# EAGLE library part PCM510X (library toslink)
2VRMS DirectPath™, 112/106/100dB Audio Stereo DAC with 32-bit, 384kHz PCM Interface
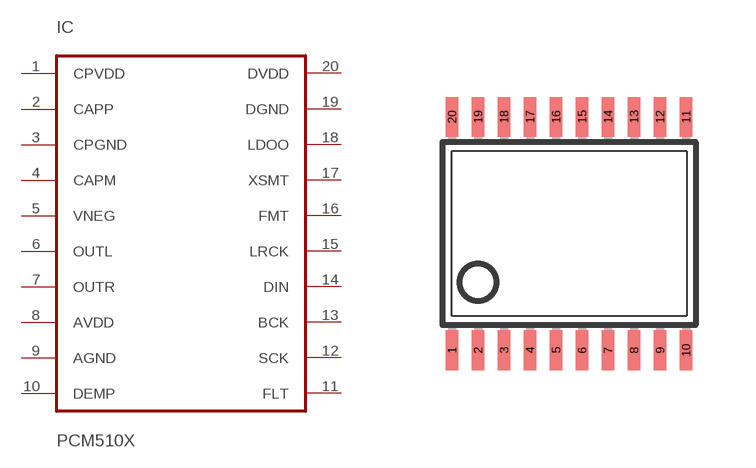
[diagram p20: symbol with the pads of TSSOP20; footprint TSSOP20]

Designator prefix IC

## PCM510X  [TSSOP20]
1  CPVDD  pwr
2  CAPP  out
3  CPGND  pwr
4  CAPM  out
5  VNEG  out
6  OUTL  out
7  OUTR  out
8  AVDD  pwr
9  AGND  pwr
10  DEMP  in
11  FLT  in
12  SCK  in
13  BCK  in
14  DIN  in
15  LRCK  in
16  FMT  in
17  XSMT  in
18  LDOO  pwr
19  DGND  pwr
20  DVDD  pwr

## Footprint TSSOP20 (pad centres in mm)
Thin Shrink Small Outline Plastic 20
smd 0.305 x 0.991: 1 -2.925,-2.918; 2 -2.275,-2.918; 3 -1.625,-2.918; 4 -0.975,-2.918; 5 -0.325,-2.918; 6 0.325,-2.918; 7 0.975,-2.918; 8 1.625,-2.918; 9 2.275,-2.918; 10 2.925,-2.918; 11 2.925,2.918; 12 2.275,2.918; 13 1.625,2.918; 14 0.975,2.918; 15 0.325,2.918; 16 -0.325,2.918; 17 -0.975,2.918; 18 -1.625,2.918; 19 -2.275,2.918; 20 -2.925,2.918